# EAGLE library part MCM6706R (library memory-sram)
MEMORY
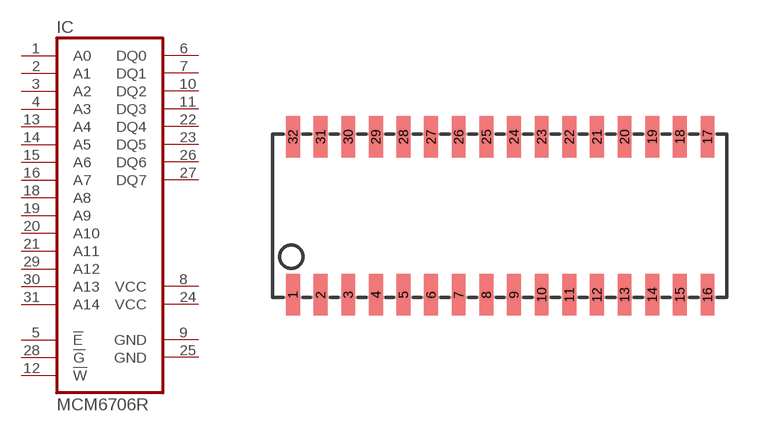
[diagram p12: symbol with the pads of SOJ32/3; footprint SOJ32/3]

Designator prefix IC

## MCM6706R  [SOJ32/3]
1  A0  in
2  A1  in
3  A2  in
4  A3  in
5  !E  in
6  DQ0
7  DQ1
8  VCC  pwr
9  GND  pwr
10  DQ2
11  DQ3
12  !W  in
13  A4  in
14  A5  in
15  A6  in
16  A7  in
18  A8  in
19  A9  in
20  A10  in
21  A11  in
22  DQ4
23  DQ5
24  VCC  pwr
25  GND  pwr
26  DQ6
27  DQ7
28  !G  in
29  A12  in
30  A13  in
31  A14  in

## Footprint SOJ32/3 (pad centres in mm)
Small Outline J-Bend
smd 0.635 x 1.905: 1 -9.525,-3.632; 2 -8.255,-3.632; 3 -6.985,-3.632; 4 -5.715,-3.632; 5 -4.445,-3.632; 6 -3.175,-3.632; 7 -1.905,-3.632; 8 -0.635,-3.632; 9 0.635,-3.632; 10 1.905,-3.632; 11 3.175,-3.632; 12 4.445,-3.632; 13 5.715,-3.632; 14 6.985,-3.632; 15 8.255,-3.632; 16 9.525,-3.632; 17 9.525,3.632; 18 8.255,3.632; 19 6.985,3.632; 20 5.715,3.632; 21 4.445,3.632; 22 3.175,3.632; 23 1.905,3.632; 24 0.635,3.632; 25 -0.635,3.632; 26 -1.905,3.632; 27 -3.175,3.632; 28 -4.445,3.632; 29 -5.715,3.632; 30 -6.985,3.632; 31 -8.255,3.632; 32 -9.525,3.632